# EAGLE library part MICRO_US_SMT_PLUG (library Interface)
Micro USB SMT Plug.
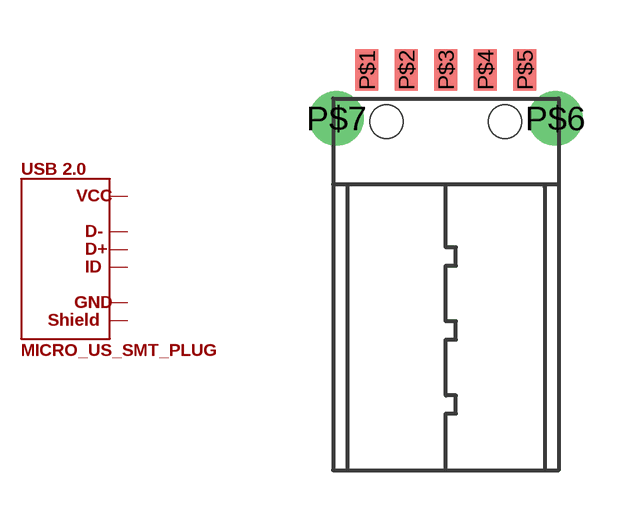
[diagram p13: symbol with the pads of MICRO_PUG; footprint MICRO_PUG]

Designator prefix PLUG

## MICRO_US_SMT_PLUG  [MICRO_PUG]
P$1  P$1
P$2  P$2
P$3  P$3
P$4  P$4
P$5  P$5
P$6  P$6
P$7  P$6

## Footprint MICRO_PUG (pad centres in mm)
smd 0.7 x 1.25: P$1 -2.4,0; P$2 -1.2,0; P$3 0,0; P$4 1.2,0; P$5 2.4,0
drill 1.1: P$6 3.325,-1.475; P$7 -3.325,-1.475
hole 1 at -1.8,-1.575
hole 1 at 1.8,-1.575